# EAGLE library part BLE113 (library ee_projects)
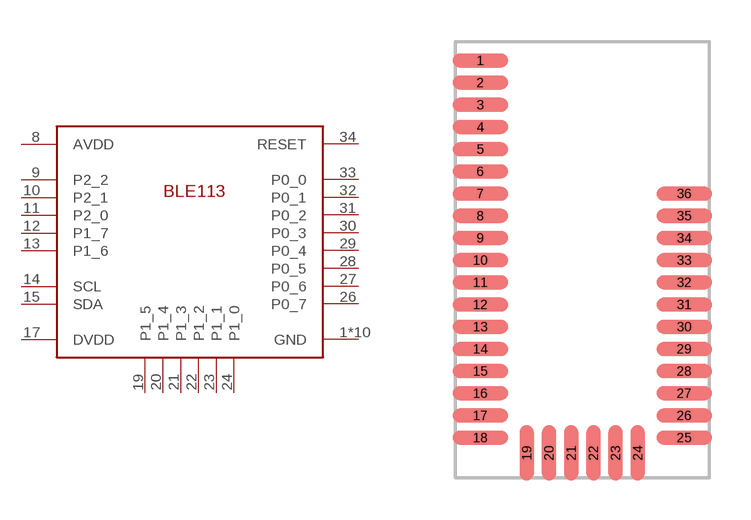
[diagram p4: symbol with the pads of BLE113; footprint BLE113]

Designator prefix -

## BLE113  [BLE113]
1  GND
2  GND
3  GND
4  GND
5  GND
6  GND
7  GND
8  AVDD
9  P2_2
10  P2_1
11  P2_0
12  P1_7
13  P1_6
14  SCL
15  SDA
17  DVDD
18  GND
19  P1_5
20  P1_4
21  P1_3
22  P1_2
23  P1_1
24  P1_0
25  GND
26  P0_7
27  P0_6
28  P0_5
29  P0_4
30  P0_3
31  P0_2
32  P0_1
33  P0_0
34  RESET
36  GND

## Footprint BLE113 (pad centres in mm)
smd 2 x 0.5: 1 0,13.6; 2 0,12.8; 3 0,12; 4 0,11.2; 5 0,10.4; 6 0,9.6; 7 0,8.8; 8 0,8; 9 0,7.2; 10 0,6.4; 11 0,5.6; 12 0,4.8; 13 0,4; 14 0,3.2; 15 0,2.4; 16 0,1.6; 17 0,0.8; 18 0,0; 25 7.35,0; 26 7.35,0.8; 27 7.35,1.6; 28 7.35,2.4; 29 7.35,3.2; 30 7.35,4; 31 7.35,4.8; 32 7.35,5.6; 33 7.35,6.4; 34 7.35,7.2; 35 7.35,8; 36 7.35,8.8
smd 0.5 x 2: 19 1.675,-0.55; 20 2.475,-0.55; 21 3.275,-0.55; 22 4.075,-0.55; 23 4.875,-0.55; 24 5.675,-0.55